# Altium schematic symbol library Schlib.SchLib: 629 symbols (part 2 of 21)
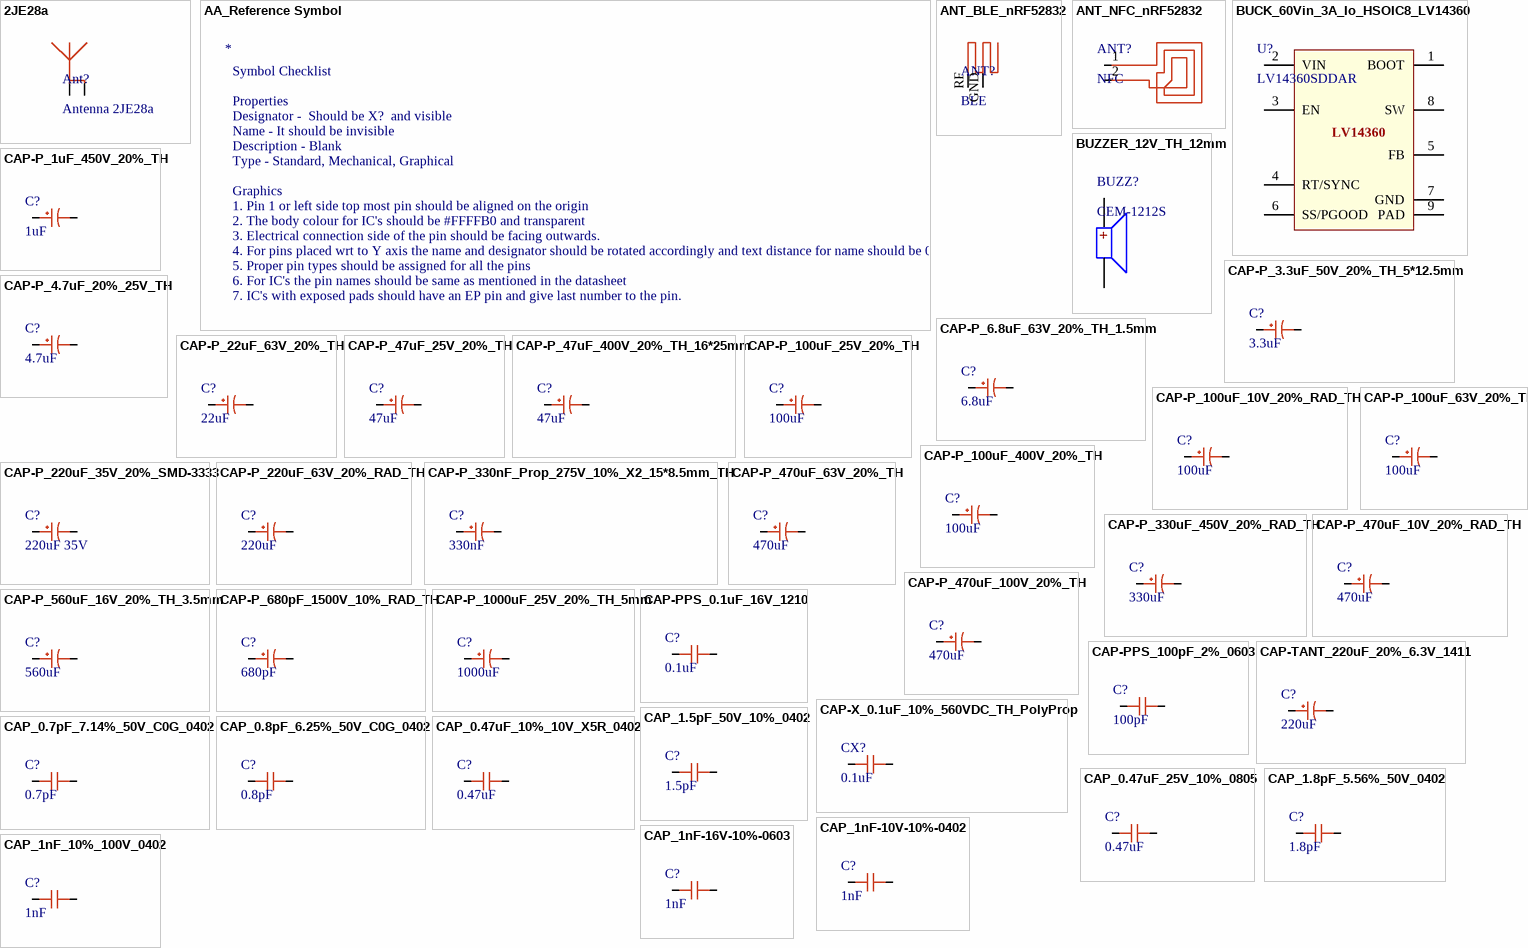
[diagram p19: symbols 2JE28a to CAP_1nF_10%_100V_0402]

## CAP_0.47uF_10%_10V_X5R_0402
designator C?, comment 0.47uF
Ceramic Capacitor, Multilayer, Ceramic, 10V, 10% +Tol, 10% -Tol, X5R, 15% TC, 0.47uF, Surface Mount, 0402; Manufacturer: Murata; Manufacturer Part Number: GRM155R61A474KE15D; Value: 470nF; Multilayer: Yes; Supplier: Digikey; Supplier Part Number: 490-3264-1-ND; RoHS: Yes; Category: Ceramic Capacitors; Stock: 2924505; Pricing: 1=0.1, 10=0.061, 50=0.0362, 100=0.0284, 500=0.021, 1000=0.01739, 2500=0.01618, 5000=0.01481 (USD); Mounting Technology: Surface Mount; Pins: 2; Dielectric Material: Ceramic; Package Shape: Rectangular; Case/Package: 0402; Terminal Finish: Nickel; Min Operating Temperature: -55°C; Max Operating Temperature: 85°C; JESD-609 Code: e3; Capacitor Type: Ceramic; Tolerance  (fill in as +-): 10%; Package Style: SMTMeter; Packaging: Tape and Reel; Tolerance (fill in as +-): 10%; Rated DC Voltage (URdc): 10V; Temperature Characteristics Code: X5R; Termination: Wraparound; Length: 1mm; Width: 0.5mm; Height: 0.5mm; Reach SVHC Compliant: Yes; RoHS Compliant: Yes; ComponentLink1URL: https://datasheet.ciiva.com:443/pdfs/VipMasterIC/IC/MURE/MURE-S-A0008911154/MURE-S-A0008911155-1.pdf?src-supplier=IHS+Markit; ComponentLink1Description: https://datasheet.ciiva.com:443/pdfs/VipMasterIC/IC/MURE/MURE-S-A0008911154/MURE-S-A0008911155-1.pdf?src-supplier=IHS+Markit; ComponentLink2URL: https://datasheet.ciiva.com/6068/1747445-6068308.pdf?src-supplier=Farnell; ComponentLink2Description: https://datasheet.ciiva.com/6068/1747445-6068308.pdf?src-supplier=Farnell; ComponentLink3URL: https://datasheet.ciiva.com/164/product-164992.pdf?src-supplier=Digikey; ComponentLink3Description: https://datasheet.ciiva.com/164/product-164992.pdf?src-supplier=Digikey; ComponentLink4URL: https://datasheet.ciiva.com/11786/0900766b80ef921d-11786226.pdf?src-supplier=Rs; ComponentLink4Description: https://datasheet.ciiva.com/11786/0900766b80ef921d-11786226.pdf?src-supplier=Rs; ComponentLink5URL: https://datasheet.ciiva.com/18184/getdatasheetpartid-137366-18184609.pdf?src-supplier=Verical; ComponentLink5Description: https://datasheet.ciiva.com/18184/getdatasheetpartid-137366-18184609.pdf?src-supplier=Verical; ComponentLink6URL: https://datasheet.ciiva.com/29200/453533-da-01-en-vs-kondensator-0402-29200100.pdf?src-supplier=Conrad; ComponentLink6Description: https://datasheet.ciiva.com/29200/453533-da-01-en-vs-kondensator-0402-29200100.pdf?src-supplier=Conrad; ComponentLink7URL: https://datasheet.ciiva.com/14116/grmseries-highdielectrictype-eng-14116874.pdf?src-supplier=Distrelec; ComponentLink7Description: https://datasheet.ciiva.com/14116/grmseries-highdielectrictype-eng-14116874.pdf?src-supplier=Distrelec; ComponentLink8URL: https://datasheet.ciiva.com/7719/1747445-7719005.pdf?src-supplier=Element14; ComponentLink8Description: https://datasheet.ciiva.com/7719/1747445-7719005.pdf?src-supplier=Element14; ComponentLink9URL: https://datasheet.ciiva.com/164/grm155r61a474ke15-01-164994.pdf?src-supplier=Digikey; ComponentLink9Description: https://datasheet.ciiva.com/164/grm155r61a474ke15-01-164994.pdf?src-supplier=Digikey; ComponentLink10URL: https://datasheet.ciiva.com/2989/product-2989371.pdf?src-supplier=Avnet; ComponentLink10Description: https://datasheet.ciiva.com/2989/product-2989371.pdf?src-supplier=Avnet; ComponentLink11URL: https://datasheet.ciiva.com/164/grm155r61a474ke15-01-164993.pdf?src-supplier=Digikey; ComponentLink11Description: https://datasheet.ciiva.com/164/grm155r61a474ke15-01-164993.pdf?src-supplier=Digikey; ComponentLink12URL: https://datasheet.ciiva.com/22698/1747445-22698412.pdf?src-supplier=Element14; ComponentLink12Description: https://datasheet.ciiva.com/22698/1747445-22698412.pdf?src-supplier=Element14; ComponentLink13URL: https://datasheet.ciiva.com/16199/product-16199863.pdf?src-supplier=Future+Electronics; ComponentLink13Description: https://datasheet.ciiva.com/16199/product-16199863.pdf?src-supplier=Future+Electronics
footprint CAP_0402
pins: 1, 2

## CAP_0.47uF_25V_10%_0805
designator C?, comment 0.47uF
Ceramic Capacitor, Multilayer, Ceramic, 25V, 10% +Tol, 10% -Tol, X7R, 15% TC, 0.47uF, Surface Mount, 0805; Manufacturer: Samsung; Manufacturer Part Number: CL21B474KAFNNNG; Value: 470nF; Multilayer: Yes; Supplier: Digikey; Supplier Part Number: 1276-6480-1-ND; RoHS: Yes; Category: Ceramic Capacitors; Stock: 655964; Pricing: 1=0.1, 10=0.037, 50=0.025, 100=0.0213, 500=0.01524, 1000=0.01334 (USD); Mounting Technology: Surface Mount; Pins: 2; Dielectric Material: Ceramic; Package Shape: Rectangular; Case/Package: 0805; Terminal Finish: Nickel; Min Operating Temperature: -55°C; Max Operating Temperature: 125°C; JESD-609 Code: e3; Capacitor Type: Ceramic; Tolerance  (fill in as +-): 10%; Package Style: SMTMeter; Packaging: Tape and Reel; Tolerance (fill in as +-): 10%; Rated DC Voltage (URdc): 25V; Temperature Characteristics Code: X7R; Termination: Wraparound; Length: 2mm; Width: 1.25mm; Height: 1.35mm; Reach SVHC Compliant: Yes; RoHS Compliant: Yes; ComponentLink1URL: https://datasheet.ciiva.com:443/pdfs/VipMasterIC/IC/SEMS/SEMS-S-A0008524728/SEMS-S-A0008522983-1.pdf?src-supplier=IHS+Markit; ComponentLink1Description: https://datasheet.ciiva.com:443/pdfs/VipMasterIC/IC/SEMS/SEMS-S-A0008524728/SEMS-S-A0008522983-1.pdf?src-supplier=IHS+Markit; ComponentLink2URL: https://datasheet.ciiva.com/25733/cl21b474kafnnng-25733031.pdf?src-supplier=Digikey; ComponentLink2Description: https://datasheet.ciiva.com/25733/cl21b474kafnnng-25733031.pdf?src-supplier=Digikey; ComponentLink3URL: https://datasheet.ciiva.com/29200/453672-da-01-en-vs-kondensator-0805-29200028.pdf?src-supplier=Conrad; ComponentLink3Description: https://datasheet.ciiva.com/29200/453672-da-01-en-vs-kondensator-0805-29200028.pdf?src-supplier=Conrad; ComponentLink4URL: https://datasheet.ciiva.com/29200/453685-da-01-en-vs-kondensator-0805-29200035.pdf?src-supplier=Conrad; ComponentLink4Description: https://datasheet.ciiva.com/29200/453685-da-01-en-vs-kondensator-0805-29200035.pdf?src-supplier=Conrad
footprint CAP_0805
pins: 1, 2

## CAP_1.5pF_50V_10%_0402
designator C?, comment 1.5pF
Cap Cer 1.5PF 50V C0G/NP0 0402; Manufacturer: Johanson; Manufacturer Part Number: QSCF500Q1R5B1GV001T; Supplier: Digikey; Supplier Part Number: 712-QSCF500Q1R5B1GV001TCT-ND; RoHS: Yes; Category: Ceramic Capacitors; Stock: 81872; Pricing: 1=0.16, 10=0.093, 100=0.057, 1000=0.03875, 2500=0.03422, 5000=0.03149 (USD); Reach SVHC Compliant: No; RoHS Compliant: Yes
footprint CAP_0402
pins: 1, 2

## CAP_1.8pF_5.56%_50V_0402
designator C?, comment 1.8pF
Ceramic Capacitor, Multilayer, Ceramic, 50V, 5.56% +Tol, 5.56% -Tol, C0G, 30ppm/Cel TC, 0.0000018uF, Surface Mount, 0402; Manufacturer: Murata; Manufacturer Part Number: GJM1555C1H1R8BB01D; Multilayer: Yes; Supplier: Mouser; Supplier Part Number: 81-GJM1555C1H1R8BB01; RoHS: Yes; Category: Ceramic Capacitors; Stock: 161976; Pricing: 1=0.1, 10=0.039, 50=0.039, 100=0.025, 1000=0.022, 10000=0.013 (USD); Mounting Technology: Surface Mount; Pins: 2; Dielectric Material: Ceramic; Package Shape: Rectangular; Case/Package: 0402; Terminal Finish: Nickel; Min Operating Temperature: -55°C; Max Operating Temperature: 125°C; JESD-609 Code: e3; Value: 1.8pF; Capacitor Type: Ceramic; Tolerance  (fill in as +-): 5.56%; Package Style: SMTMeter; Packaging: Tape and Reel; Tolerance (fill in as +-): 5.56%; Rated DC Voltage (URdc): 50V; Temperature Characteristics Code: C0G; Termination: Wraparound; Length: 1mm; Width: 0.5mm; Height: 0.5mm; Reach SVHC Compliant: Yes; RoHS Compliant: Yes; ComponentLink1URL: https://datasheet.ciiva.com:443/pdfs/VipMasterIC/IC/MURE/MURE-S-A0008911298/MURE-S-A0008911267-1.pdf?src-supplier=IHS+Markit; ComponentLink1Description: https://datasheet.ciiva.com:443/pdfs/VipMasterIC/IC/MURE/MURE-S-A0008911298/MURE-S-A0008911267-1.pdf?src-supplier=IHS+Markit; ComponentLink2URL: https://datasheet.ciiva.com/5694/1700192-5694976.pdf?src-supplier=Farnell; ComponentLink2Description: https://datasheet.ciiva.com/5694/1700192-5694976.pdf?src-supplier=Farnell; ComponentLink3URL: https://datasheet.ciiva.com/11615/product-11615590.pdf?src-supplier=Avnet; ComponentLink3Description: https://datasheet.ciiva.com/11615/product-11615590.pdf?src-supplier=Avnet; ComponentLink4URL: https://datasheet.ciiva.com/8030/1303334-8030110.pdf?src-supplier=Element14; ComponentLink4Description: https://datasheet.ciiva.com/8030/1303334-8030110.pdf?src-supplier=Element14; ComponentLink5URL: https://datasheet.ciiva.com/22732/1303334-22732102.pdf?src-supplier=Element14; ComponentLink5Description: https://datasheet.ciiva.com/22732/1303334-22732102.pdf?src-supplier=Element14; ComponentLink6URL: https://datasheet.ciiva.com/29542/partnumbering-e-01-29542602.pdf?src-supplier=Digikey; ComponentLink6Description: https://datasheet.ciiva.com/29542/partnumbering-e-01-29542602.pdf?src-supplier=Digikey; ComponentLink7URL: https://datasheet.ciiva.com/29542/partnumbering-e-01-29542601.pdf?src-supplier=Digikey; ComponentLink7Description: https://datasheet.ciiva.com/29542/partnumbering-e-01-29542601.pdf?src-supplier=Digikey; ComponentLink8URL: https://datasheet.ciiva.com/29542/partnumbering-e-01-29542603.pdf?src-supplier=Digikey; ComponentLink8Description: https://datasheet.ciiva.com/29542/partnumbering-e-01-29542603.pdf?src-supplier=Digikey; ComponentLink9URL: https://datasheet.ciiva.com/16440/l0005e-16440475.pdf?src-supplier=Future+Electronics; ComponentLink9Description: https://datasheet.ciiva.com/16440/l0005e-16440475.pdf?src-supplier=Future+Electronics
footprint CAP_0402
pins: 1, 2

## CAP_1nF-10V-10%-0402
designator C?, comment 1nF
Multilayer Ceramic Capacitor, 1000 pF, 10 V, ± 10%, X7R, 0402 [1005 Metric]; Manufacturer: KEMET; Manufacturer Part Number: C0402C102K8RACTU; Voltage Rating: 10V; Dissipation Factor: 5%; Case/Package: 0402; Supplier-1: Digikey; Supplier 1: Digi-Key; Manufacturer 1: KEMET; Manufacturer Part Number 1: C0402C102K8RACTU; RoHS: Yes; Category: Ceramic Capacitors; Stock 1: 209937; Pricing 1: 1=0.1, 10=0.019, 50=0.0104, 100=0.0085, 500=0.00604, 1000=0.00475, 2500=0.00432, 5000=0.00397 (USD); Mount: Surface Mount; Case Code (Imperial): 0402; Case Code (Metric): 1005; Dielectric Material: Ceramic; Min Operating Temperature: -55°C; Max Operating Temperature: 125°C; Capacitance: 1nF; Tolerance: 10%; Packaging: Tape and Reel; Package Quantity: 1; Voltage Rating (DC): 10V; Dielectric: X7R; Termination: SMD/SMT; Series: C; Construction: Flat; Length: 1mm; Width: 0.02inch; Height: 0.5mm; Lead Pitch: 0.3mm; Thickness: 0.022inch; Depth: 0.5mm; Reach SVHC Compliant: No; RoHS Compliant: Yes; ComponentLink1URL: http://www.farnell.com/datasheets/2746032.pdf?src-supplier=Farnell; ComponentLink1Description: http://www.farnell.com/datasheets/2746032.pdf?src-supplier=Farnell; ComponentLink2URL: http://components.arrow.com/part/dataview/2084806S6036613N7429?src-supplier=Arrow+Electronics; ComponentLink2Description: http://components.arrow.com/part/dataview/2084806S6036613N7429?src-supplier=Arrow+Electronics; ComponentLink3URL: http://www.mouser.com/ds/2/212/KEM_C1002_X7R_SMD-1102033.pdf?src-supplier=Mouser; ComponentLink3Description: http://www.mouser.com/ds/2/212/KEM_C1002_X7R_SMD-1102033.pdf?src-supplier=Mouser; ComponentLink4URL: http://capacitoredge.kemet.com/capedge2/DataSheet?pn=C0402C102K8RAC7867&src-supplier=Avnet; ComponentLink4Description: http://capacitoredge.kemet.com/capedge2/DataSheet?pn=C0402C102K8RAC7867&src-supplier=Avnet; ComponentLink5URL: http://www.farnell.com/datasheets/2314914.pdf?src-supplier=Newark; ComponentLink5Description: http://www.farnell.com/datasheets/2314914.pdf?src-supplier=Newark; ComponentLink6URL: https://datasheet.octopart.com/C0402C102K8RACTU-KEMET-datasheet-74831184.pdf?src-supplier=Newark; ComponentLink6Description: https://datasheet.octopart.com/C0402C102K8RACTU-KEMET-datasheet-74831184.pdf?src-supplier=Newark; ComponentLink7URL: https://api.kemet.com/component-edge/download/datasheet/C0402C102K8RACTU.pdf?src-supplier=Digi-Key; ComponentLink7Description: https://api.kemet.com/component-edge/download/datasheet/C0402C102K8RACTU.pdf?src-supplier=Digi-Key; ComponentLink8URL: https://datasheet.octopart.com/C0402C102K8RACTU-Kemet-datasheet-65850000.pdf?src-supplier=Element14; ComponentLink8Description: https://datasheet.octopart.com/C0402C102K8RACTU-Kemet-datasheet-65850000.pdf?src-supplier=Element14; ComponentLink9URL: https://datasheet.octopart.com/C0402C102K8RACTU-KEMET-datasheet-149521594.pdf?src-supplier=Farnell; ComponentLink9Description: https://datasheet.octopart.com/C0402C102K8RACTU-KEMET-datasheet-149521594.pdf?src-supplier=Farnell; ComponentLink10URL: http://www.farnell.com/datasheets/2746032.pdf?src-supplier=Element14; ComponentLink10Description: http://www.farnell.com/datasheets/2746032.pdf?src-supplier=Element14; ComponentLink11URL: http://www.farnell.com/datasheets/2746032.pdf?src-supplier=Newark; ComponentLink11Description: http://www.farnell.com/datasheets/2746032.pdf?src-supplier=Newark; ComponentLink12URL: https://datasheet.octopart.com/C0402C102K8RACTU-KEMET-datasheet-138697071.pdf?src-supplier=TME; ComponentLink12Description: https://datasheet.octopart.com/C0402C102K8RACTU-KEMET-datasheet-138697071.pdf?src-supplier=TME; ComponentLink13URL: https://datasheet.octopart.com/C0402C102K8RACTU-KEMET-datasheet-157246124.pdf?src-supplier=Electro+Sonic; ComponentLink13Description: https://datasheet.octopart.com/C0402C102K8RACTU-KEMET-datasheet-157246124.pdf?src-supplier=Electro+Sonic
footprint CAP_0402 (Capacitor)
pins: 1, 2

## CAP_1nF-16V-10%-0603
designator C?, comment 1nF
1000pF ±10% 16V Ceramic Capacitor X7R 0603 (1608 Metric); Manufacturer: KEMET; Manufacturer Part Number: C0603C102K4RECAUTO; Case/Package: 0603; Supplier-1: Digikey
footprint CAP_0603 (Capacitor)
pins: 1, 2

## CAP_1nF_10%_100V_0402
designator C?, comment 1nF
Ceramic Capacitor, Multilayer, Ceramic, 100V, 10% +Tol, 10% -Tol, X7R, 15% TC, 0.001uF, Surface Mount, 0402; Manufacturer: Murata; Manufacturer Part Number: GRM155R72A102KA01D; Multilayer: Yes; Supplier: Mouser; Supplier Part Number: 81-GRM155R72A102KA1D; RoHS: Yes; Category: Ceramic Capacitors; Stock: 90228; Pricing: 1=0.1, 10=0.018, 50=0.018, 100=0.011, 1000=0.007, 10000=0.004 (USD); Mounting Technology: Surface Mount; Pins: 2; Dielectric Material: Ceramic; Package Shape: Rectangular; Case/Package: 0402; Terminal Finish: Nickel; Min Operating Temperature: -55°C; Max Operating Temperature: 125°C; JESD-609 Code: e3; Value: 1nF; Capacitor Type: Ceramic; Tolerance  (fill in as +-): 10%; Package Style: SMTMeter; Packaging: Tape and Reel; Tolerance (fill in as +-): 10%; Rated DC Voltage (URdc): 100V; Temperature Characteristics Code: X7R; Termination: Wraparound; Length: 1mm; Width: 0.5mm; Height: 0.5mm; Reach SVHC Compliant: Yes; RoHS Compliant: Yes; ComponentLink1URL: https://datasheet.ciiva.com:443/pdfs/VipMasterIC/IC/MURE/MURE-S-A0004362469/MURE-S-A0004364740-1.pdf?src-supplier=IHS+Markit; ComponentLink1Description: https://datasheet.ciiva.com:443/pdfs/VipMasterIC/IC/MURE/MURE-S-A0004362469/MURE-S-A0004364740-1.pdf?src-supplier=IHS+Markit; ComponentLink2URL: https://datasheet.ciiva.com/18184/getdatasheetpartid-223878-18184773.pdf?src-supplier=Verical; ComponentLink2Description: https://datasheet.ciiva.com/18184/getdatasheetpartid-223878-18184773.pdf?src-supplier=Verical; ComponentLink3URL: https://datasheet.ciiva.com/6270/partnumbering-e-01-6270796.pdf?src-supplier=Digikey; ComponentLink3Description: https://datasheet.ciiva.com/6270/partnumbering-e-01-6270796.pdf?src-supplier=Digikey; ComponentLink4URL: https://datasheet.ciiva.com/6270/partnumbering-e-01-6270792.pdf?src-supplier=Digikey; ComponentLink4Description: https://datasheet.ciiva.com/6270/partnumbering-e-01-6270792.pdf?src-supplier=Digikey; ComponentLink5URL: https://datasheet.ciiva.com/6270/partnumbering-e-01-6270798.pdf?src-supplier=Digikey; ComponentLink5Description: https://datasheet.ciiva.com/6270/partnumbering-e-01-6270798.pdf?src-supplier=Digikey; ComponentLink6URL: https://datasheet.ciiva.com/11621/product-11621687.pdf?src-supplier=Avnet; ComponentLink6Description: https://datasheet.ciiva.com/11621/product-11621687.pdf?src-supplier=Avnet
footprint CAP_0402
pins: 1, 2

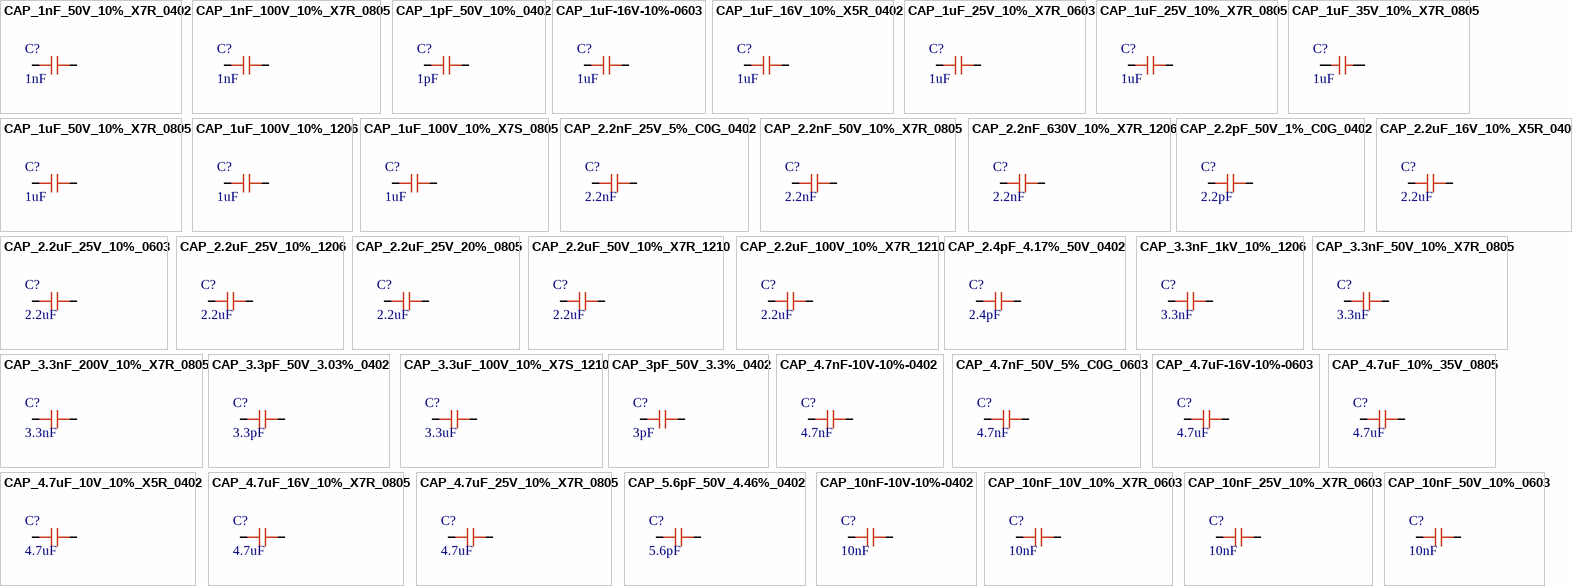
[diagram p1: symbols CAP_1nF_50V_10%_X7R_0402 to CAP_10nF_50V_10%_0603]

## CAP_1nF_50V_10%_X7R_0402
designator C?, comment 1nF
Ceramic Capacitor, Multilayer, Ceramic, 50V, 10% +Tol, 10% -Tol, X7R, 15% TC, 0.001uF, Surface Mount, 0402; Manufacturer: KEMET; Manufacturer Part Number: C0402C102K5RACTU; Multilayer: Yes; Supplier: Farnell; Supplier Part Number: 1414573; RoHS: Yes; Category: Ceramic Capacitors; Stock: 59491; Pricing: 10=0.008, 100=0.0057, 500=0.0051, 1000=0.0045, 2000=0.0033 (EUR); Mounting Technology: Surface Mount; Pins: 2; Dielectric Material: Ceramic; Package Shape: Rectangular; Case/Package: 0402; Terminal Finish: Nickel; Min Operating Temperature: -55°C; Max Operating Temperature: 125°C; JESD-609 Code: e3; Value: 1nF; Capacitor Type: Ceramic; Tolerance  (fill in as +-): 10%; Package Style: SMTMeter; Packaging: Tape and Reel; Tolerance (fill in as +-): 10%; Rated DC Voltage (URdc): 50V; Temperature Characteristics Code: X7R; Termination: Wraparound; Length: 1mm; Width: 0.5mm; Height: 0.5mm; Reach SVHC Compliant: Yes; RoHS Compliant: Yes; ComponentLink1URL: https://datasheet.ciiva.com:443/pdfs/VipMasterIC/IC/KEME/KEME-S-A0008991654/KEME-S-A0008991654-1.pdf?src-supplier=IHS+Markit; ComponentLink1Description: https://datasheet.ciiva.com:443/pdfs/VipMasterIC/IC/KEME/KEME-S-A0008991654/KEME-S-A0008991654-1.pdf?src-supplier=IHS+Markit; ComponentLink2URL: https://datasheet.ciiva.com/7747/1725415-7747432.pdf?src-supplier=Element14; ComponentLink2Description: https://datasheet.ciiva.com/7747/1725415-7747432.pdf?src-supplier=Element14; ComponentLink3URL: https://datasheet.ciiva.com/5904/kem-c1002-x7r-smd-5904601.pdf?src-supplier=Farnell; ComponentLink3Description: https://datasheet.ciiva.com/5904/kem-c1002-x7r-smd-5904601.pdf?src-supplier=Farnell; ComponentLink4URL: https://datasheet.ciiva.com/28645/1851736-28645368.pdf?src-supplier=Element14; ComponentLink4Description: https://datasheet.ciiva.com/28645/1851736-28645368.pdf?src-supplier=Element14; ComponentLink5URL: https://datasheet.ciiva.com/14589/70095383-14589561.pdf?src-supplier=Allied+Electronics; ComponentLink5Description: https://datasheet.ciiva.com/14589/70095383-14589561.pdf?src-supplier=Allied+Electronics; ComponentLink6URL: https://datasheet.ciiva.com/14588/70095383-14588870.pdf?src-supplier=Allied+Electronics; ComponentLink6Description: https://datasheet.ciiva.com/14588/70095383-14588870.pdf?src-supplier=Allied+Electronics; ComponentLink7URL: https://datasheet.ciiva.com/7747/1918693-7747609.pdf?src-supplier=Element14; ComponentLink7Description: https://datasheet.ciiva.com/7747/1918693-7747609.pdf?src-supplier=Element14; ComponentLink8URL: https://datasheet.ciiva.com/5417/kem-c1002-x7r-smd-5417983.pdf?src-supplier=Mouser; ComponentLink8Description: https://datasheet.ciiva.com/5417/kem-c1002-x7r-smd-5417983.pdf?src-supplier=Mouser
footprint CAP_0402
pins: 1, 2

## CAP_1nF_100V_10%_X7R_0805
designator C?, comment 1nF
Ceramic Capacitor, Multilayer, Ceramic, 100V, 10% +Tol, 10% -Tol, X7R, 15% TC, 0.001uF, Surface Mount, 0805; Manufacturer: Samsung; Manufacturer Part Number: CL21B102KCANNNC; Multilayer: Yes; Supplier: Arrow Electronics; Supplier Part Number: CL21B102KCANNNC; RoHS: Yes; Category: Ceramic Capacitors; Stock: 3500000; Pricing: 16000=0.0057, 28000=0.0049, 100000=0.0046, 200000=0.0039 (USD); Mounting Technology: Surface Mount; Pins: 2; Dielectric Material: Ceramic; Package Shape: Rectangular; Case/Package: 0805; Terminal Finish: Nickel; Min Operating Temperature: -55°C; Max Operating Temperature: 125°C; JESD-609 Code: e3; Value: 1nF; Capacitor Type: Ceramic; Tolerance  (fill in as +-): 10%; Package Style: SMTMeter; Packaging: Tape and Reel; Tolerance (fill in as +-): 10%; Rated DC Voltage (URdc): 100V; Temperature Characteristics Code: X7R; Termination: Wraparound; Length: 2mm; Width: 1.25mm; Height: 0.65mm; Reach SVHC Compliant: Yes; RoHS Compliant: Yes; ComponentLink1URL: https://datasheet.ciiva.com:443/pdfs/VipMasterIC/IC/SEMS/SEMS-S-A0008523115/SEMS-S-A0008523345-1.pdf?src-supplier=IHS+Markit; ComponentLink1Description: https://datasheet.ciiva.com:443/pdfs/VipMasterIC/IC/SEMS/SEMS-S-A0008523115/SEMS-S-A0008523345-1.pdf?src-supplier=IHS+Markit; ComponentLink2URL: https://datasheet.ciiva.com/26878/getdatasheetpartid-643098-26878049.pdf?src-supplier=Verical; ComponentLink2Description: https://datasheet.ciiva.com/26878/getdatasheetpartid-643098-26878049.pdf?src-supplier=Verical; ComponentLink3URL: https://datasheet.ciiva.com/29199/456063-da-01-en-vs-kondensator-0805-29199067.pdf?src-supplier=Conrad; ComponentLink3Description: https://datasheet.ciiva.com/29199/456063-da-01-en-vs-kondensator-0805-29199067.pdf?src-supplier=Conrad; ComponentLink4URL: https://datasheet.ciiva.com/26310/mlcc-catalogdownload2013-eng-26310183.pdf?src-supplier=Distrelec; ComponentLink4Description: https://datasheet.ciiva.com/26310/mlcc-catalogdownload2013-eng-26310183.pdf?src-supplier=Distrelec
footprint CAP_0805
pins: 1, 2

## CAP_1pF_50V_10%_0402
designator C?, comment 1pF
Cap Cer 1PF 50V C0G/NP0 0402; Manufacturer: Johanson; Manufacturer Part Number: QSCF500Q1R0B1GV001T; Supplier: Farnell; Supplier Part Number: 4388592; RoHS: Yes; Category: Ceramic Capacitors; Stock: 9860; Pricing: 10=0.0616, 100=0.0384, 500=0.0324, 2500=0.0293, 5000=0.0273, 10000=0.0252 (EUR); Reach SVHC Compliant: No; RoHS Compliant: Yes
footprint CAP_0402
pins: 1, 2

## CAP_1uF-16V-10%-0603
designator C?, comment 1uF
Multilayer Ceramic Capacitor, 1 uF, 16 V, ± 10%, X7R, 0603 [1608 Metric]; Manufacturer: Yageo; Manufacturer Part Number: CC0603KRX7R7BB105; Voltage Rating: 16V; Dissipation Factor: 5%; Case/Package: 0603; Supplier-1: Digikey; Supplier 1: Digi-Key; Manufacturer 1: Yageo; Manufacturer Part Number 1: CC0603KRX7R7BB105; RoHS: Yes; Category: Ceramic Capacitors; Stock 1: 9958482; Pricing 1: 1=0.14, 10=0.098, 50=0.0556, 100=0.0461, 500=0.03234, 1000=0.02678 (USD); Mount: Surface Mount; Number of Pins: 2; Case Code (Metric): 1608; Case Code (Imperial): 0603; Min Operating Temperature: -55°C; Max Operating Temperature: 125°C; Capacitance: 1uF; Tolerance: 10%; Dielectric: X7R; Package Quantity: 1; Packaging: Tape and Reel; Voltage Rating (DC): 16V; Termination: SMD/SMT; Voltage: 16V; Series: CC; Construction: Flat; Length: 1.6mm; Width: 0.031inch; Height: 0.8mm; Thickness: 0.035inch; Depth: 0.8mm; Radiation Hardening: No; Lead Free: Lead Free; Halogen Free: Halogen Free; RoHS Compliant: Yes; Reach SVHC Compliant: Unknown; ComponentLink1URL: https://datasheet.ciiva.com/8033/1734573-8033801.pdf?src-supplier=Element14; ComponentLink1Description: https://datasheet.ciiva.com/8033/1734573-8033801.pdf?src-supplier=Element14; ComponentLink2URL: https://datasheet.ciiva.com/8033/1734573-8033800.pdf?src-supplier=Element14; ComponentLink2Description: https://datasheet.ciiva.com/8033/1734573-8033800.pdf?src-supplier=Element14; ComponentLink3URL: https://datasheet.ciiva.com/7978/1489800-7978143.pdf?src-supplier=Element14; ComponentLink3Description: https://datasheet.ciiva.com/7978/1489800-7978143.pdf?src-supplier=Element14; ComponentLink4URL: https://datasheet.ciiva.com/28450/1489800-28450557.pdf?src-supplier=Element14; ComponentLink4Description: https://datasheet.ciiva.com/28450/1489800-28450557.pdf?src-supplier=Element14; ComponentLink5URL: https://datasheet.ciiva.com/176/mlccorderingcode-176789.pdf?src-supplier=Digi-Key; ComponentLink5Description: https://datasheet.ciiva.com/176/mlccorderingcode-176789.pdf?src-supplier=Digi-Key; ComponentLink6URL: https://datasheet.ciiva.com/176/mlccorderingcode-176788.pdf?src-supplier=Digi-Key; ComponentLink6Description: https://datasheet.ciiva.com/176/mlccorderingcode-176788.pdf?src-supplier=Digi-Key; ComponentLink7URL: https://datasheet.ciiva.com/176/mlccorderingcode-176790.pdf?src-supplier=Digi-Key; ComponentLink7Description: https://datasheet.ciiva.com/176/mlccorderingcode-176790.pdf?src-supplier=Digi-Key; ComponentLink8URL: https://datasheet.ciiva.com/5425/upy-gphc-x7r-6-3v-to-50v-8-12304-5425495.pdf?src-supplier=Mouser; ComponentLink8Description: https://datasheet.ciiva.com/5425/upy-gphc-x7r-6-3v-to-50v-8-12304-5425495.pdf?src-supplier=Mouser
footprint CAP_0603 (Capacitor)
pins: 1, 2

## CAP_1uF_16V_10%_X5R_0402
designator C?, comment 1uF
Ceramic Capacitor, Multilayer, Ceramic, 16V, 10% +Tol, 10% -Tol, X5R, 15% TC, 1uF, Surface Mount, 0402; Manufacturer: Yageo; Manufacturer Part Number: CC0402KRX5R7BB105; Multilayer: Yes; Supplier: Future Electronics; Supplier Part Number: 7066535; RoHS: Yes; Category: Ceramic Capacitors; Stock: 730000; Pricing: 10000=0.0305, 20000=0.0297, 30000=0.0293, 40000=0.029, 50000=0.0281 (USD); Mounting Technology: Surface Mount; Pins: 2; Dielectric Material: Ceramic; Package Shape: Rectangular; Case/Package: 0402; Terminal Finish: Nickel; Min Operating Temperature: -55°C; Max Operating Temperature: 85°C; JESD-609 Code: e3; Value: 1uF; Capacitor Type: Ceramic; Tolerance  (fill in as +-): 10%; Package Style: SMTMeter; Packaging: Tape and Reel; Tolerance (fill in as +-): 10%; Rated DC Voltage (URdc): 16V; Temperature Characteristics Code: X5R; Termination: Wraparound; Length: 1mm; Width: 0.5mm; Height: 0.5mm; Reach SVHC Compliant: Yes; RoHS Compliant: Yes; ComponentLink1URL: https://datasheet.ciiva.com:443/pdfs/VipMasterIC/IC/YAGO/YAGO-S-A0006851646/YAGO-S-A0006851646-1.pdf?src-supplier=IHS+Markit; ComponentLink1Description: https://datasheet.ciiva.com:443/pdfs/VipMasterIC/IC/YAGO/YAGO-S-A0006851646/YAGO-S-A0006851646-1.pdf?src-supplier=IHS+Markit; ComponentLink2URL: http://www.mouser.com/ds/2/447/UPY-GPHC_X5R_4V-to-50V_25-1131599.pdf?src-supplier=Mouser; ComponentLink2Description: http://www.mouser.com/ds/2/447/UPY-GPHC_X5R_4V-to-50V_25-1131599.pdf?src-supplier=Mouser; ComponentLink3URL: http://www.yageo.com/documents/recent/UPY-GPHC_X5R_4V-to-50V_25.pdf?src-supplier=Digikey; ComponentLink3Description: http://www.yageo.com/documents/recent/UPY-GPHC_X5R_4V-to-50V_25.pdf?src-supplier=Digikey; ComponentLink4URL: https://datasheet.octopart.com/CC0402KRX5R7BB105-Yageo-datasheet-140260304.pdf?src-supplier=Newark; ComponentLink4Description: https://datasheet.octopart.com/CC0402KRX5R7BB105-Yageo-datasheet-140260304.pdf?src-supplier=Newark; ComponentLink5URL: https://datasheet.octopart.com/CC0402KRX5R7BB105-Yageo-datasheet-137875056.pdf?src-supplier=Future+Electronics; ComponentLink5Description: https://datasheet.octopart.com/CC0402KRX5R7BB105-Yageo-datasheet-137875056.pdf?src-supplier=Future+Electronics
footprint CAP_0402
pins: 1, 2

## CAP_1uF_25V_10%_X7R_0603
designator C?, comment 1uF
Multilayer Ceramic Capacitor, 1 uF, 25 V, ± 10%, X7R, 0603 [1608 Metric]; Manufacturer: KEMET; Manufacturer Part Number: C0603C105K3RACTU; Material: 4241ConductorMaterial; Voltage Rating: 25V; Dissipation Factor: 5%; Supplier 1: Digi-Key; RoHS: Yes; Category: Ceramic Capacitors; Stock 1: 315348; Pricing 1: 1=0.25, 10=0.175, 50=0.1164, 100=0.0989, 500=0.06982, 1000=0.06108 (USD); Mount: Surface Mount; Case/Package: 0603; Case Code (Metric): 1608; Case Code (Imperial): 0603; Dielectric Material: Ceramic; Min Operating Temperature: -55°C; Max Operating Temperature: 125°C; Capacitance: 1uF; Tolerance: 10%; Packaging: Tape and Reel; Package Quantity: 4000; Voltage Rating (DC): 25V; Dielectric: X7R; Termination: SMD/SMT; Voltage: 25V; Series: SMD Comm X7R; Construction: Flat; Length: 1.6mm; Width: 0.8mm; Height: 0.8mm; Depth: 0.8mm; Reach SVHC Compliant: No; RoHS Compliant: Yes; ComponentLink1URL: http://www.farnell.com/datasheets/2740425.pdf?src-supplier=Farnell; ComponentLink1Description: http://www.farnell.com/datasheets/2740425.pdf?src-supplier=Farnell; ComponentLink2URL: http://www.farnell.com/datasheets/2740425.pdf?src-supplier=Newark; ComponentLink2Description: http://www.farnell.com/datasheets/2740425.pdf?src-supplier=Newark; ComponentLink3URL: http://www.farnell.com/datasheets/2740425.pdf?src-supplier=Element14; ComponentLink3Description: http://www.farnell.com/datasheets/2740425.pdf?src-supplier=Element14; ComponentLink4URL: https://api.kemet.com/component-edge/download/datasheet/C0603C105K3RACTU.pdf?src-supplier=Digi-Key; ComponentLink4Description: https://api.kemet.com/component-edge/download/datasheet/C0603C105K3RACTU.pdf?src-supplier=Digi-Key; ComponentLink5URL: http://www.kemet.com/Lists/ProductCatalog/Attachments/53/KEM_C1002_X7R_SMD.pdf?src-supplier=Avnet; ComponentLink5Description: http://www.kemet.com/Lists/ProductCatalog/Attachments/53/KEM_C1002_X7R_SMD.pdf?src-supplier=Avnet; ComponentLink6URL: https://datasheet.octopart.com/C0603C105K3RACTU-KEMET-datasheet-157246124.pdf?src-supplier=Electro+Sonic; ComponentLink6Description: https://datasheet.octopart.com/C0603C105K3RACTU-KEMET-datasheet-157246124.pdf?src-supplier=Electro+Sonic; Supplier Part Number 1: 399-C0603C105K3RAC7867CT-ND
footprint CAP_0603 (Chip Capacitor 0603, 2-Leads, Body 1.68x0.88mm, IPC Medium Density)
pins: 1, 2

## CAP_1uF_25V_10%_X7R_0805
designator C?, comment 1uF
Ceramic Capacitor, Multilayer, Ceramic, 25V, 10% +Tol, 10% -Tol, X7R, 15% TC, 1uF, Surface Mount, 0805; Manufacturer: KEMET; Manufacturer Part Number: C0805C105K3RACTU; Multilayer: Yes; Supplier: Digi-Key; Supplier Part Number: 399-C0805C105K3RAC7800DKR-ND; RoHS: Yes; Category: Ceramic Capacitors; Stock: 491988; Pricing: 1=0.13, 10=0.091, 50=0.054, 100=0.0425, 500=0.03142, 1000=0.02601 (USD); Mounting Technology: Surface Mount; Pins: 2; Package Shape: Rectangular; Terminal Finish: Nickel; Dielectric Material: Ceramic; Case/Package: 0805; Min Operating Temperature: -55°C; Max Operating Temperature: 125°C; JESD-609 Code: e3; Package Style: SMTMeter; Capacitor Type: Ceramic; Tolerance  (fill in as +-): 10%; Packaging: Tape and Reel; Tolerance (fill in as +-): 10%; Temperature Characteristics Code: X7R; Termination: Wraparound; Length: 2mm; Width: 1.25mm; Height: 1.25mm; Reach SVHC Compliant: Yes; RoHS Compliant: Yes; ComponentLink1URL: https://datasheet.ciiva.com:443/pdfs/VipMasterIC/IC/KEME/KEME-S-A0008991654/KEME-S-A0008991654-1.pdf?src-supplier=IHS+Markit; ComponentLink1Description: https://datasheet.ciiva.com:443/pdfs/VipMasterIC/IC/KEME/KEME-S-A0008991654/KEME-S-A0008991654-1.pdf?src-supplier=IHS+Markit; ComponentLink2URL: https://datasheet.ciiva.com/6074/kem-c1002-x7r-smd-6074661.pdf?src-supplier=Farnell; ComponentLink2Description: https://datasheet.ciiva.com/6074/kem-c1002-x7r-smd-6074661.pdf?src-supplier=Farnell; ComponentLink3URL: https://datasheet.ciiva.com/28610/1918693-28610874.pdf?src-supplier=Element14; ComponentLink3Description: https://datasheet.ciiva.com/28610/1918693-28610874.pdf?src-supplier=Element14; ComponentLink4URL: https://datasheet.ciiva.com/46443/1851736-46443533.pdf?src-supplier=Element14; ComponentLink4Description: https://datasheet.ciiva.com/46443/1851736-46443533.pdf?src-supplier=Element14; Rated DC Voltage (URdc): 25V; Value: 1uF
footprint CAP_0805
pins: 1, 2

## CAP_1uF_35V_10%_X7R_0805
designator C?, comment 1uF
Ceramic Capacitor, Multilayer, Ceramic, 35V, 10% +Tol, 10% -Tol, X7R, 15% TC, 1uF, Surface Mount, 0805; Manufacturer: Murata; Manufacturer Part Number: GCM21BR7YA105KA55L; Multilayer: Yes; Reference Standard: AEC-Q200; Supplier: Farnell; Supplier Part Number: 2494199; RoHS: Yes; Category: Ceramic Capacitors; Stock: 4994; Pricing: 5=0.171, 50=0.0944, 250=0.0901, 500=0.0857, 1500=0.084 (EUR); Mounting Technology: Surface Mount; Pins: 2; Dielectric Material: Ceramic; Package Shape: Rectangular; Case/Package: 0805; Terminal Finish: Nickel; Min Operating Temperature: -55°C; Max Operating Temperature: 125°C; JESD-609 Code: e3; Value: 1uF; Capacitor Type: Ceramic; Tolerance  (fill in as +-): 10%; Package Style: SMTMeter; Packaging: Tape and Reel; Tolerance (fill in as +-): 10%; Rated DC Voltage (URdc): 35V; Temperature Characteristics Code: X7R; Termination: Wraparound; Length: 2mm; Width: 1.25mm; Height: 1.4mm; Reach SVHC Compliant: Yes; RoHS Compliant: Yes; ComponentLink1URL: https://datasheet.ciiva.com:443/pdfs/VipMasterIC/IC/MURE/MURE-S-A0008911298/MURE-S-A0008911405-1.pdf?src-supplier=IHS+Markit; ComponentLink1Description: https://datasheet.ciiva.com:443/pdfs/VipMasterIC/IC/MURE/MURE-S-A0008911298/MURE-S-A0008911405-1.pdf?src-supplier=IHS+Markit; ComponentLink2URL: https://datasheet.ciiva.com/11616/product-11616620.pdf?src-supplier=Avnet; ComponentLink2Description: https://datasheet.ciiva.com/11616/product-11616620.pdf?src-supplier=Avnet; ComponentLink3URL: https://datasheet.ciiva.com/138/s0717e-138751.pdf?src-supplier=Digikey; ComponentLink3Description: https://datasheet.ciiva.com/138/s0717e-138751.pdf?src-supplier=Digikey; ComponentLink4URL: https://datasheet.ciiva.com/138/s0717e-138752.pdf?src-supplier=Digikey; ComponentLink4Description: https://datasheet.ciiva.com/138/s0717e-138752.pdf?src-supplier=Digikey; ComponentLink5URL: https://datasheet.ciiva.com/138/s0717e-138753.pdf?src-supplier=Digikey; ComponentLink5Description: https://datasheet.ciiva.com/138/s0717e-138753.pdf?src-supplier=Digikey; ComponentLink6URL: https://datasheet.ciiva.com/18183/getdatasheetpartid-251151-18183719.pdf?src-supplier=Verical; ComponentLink6Description: https://datasheet.ciiva.com/18183/getdatasheetpartid-251151-18183719.pdf?src-supplier=Verical
footprint CAP_0805
pins: 1, 1, 2, 2

## CAP_1uF_50V_10%_X7R_0805
designator C?, comment 1uF
Ceramic Capacitor, Multilayer, Ceramic, 50V, 10% +Tol, 10% -Tol, X7R, 15% TC, 1uF, Surface Mount, 0805; Manufacturer: Murata; Manufacturer Part Number: GCM21BR71H105KA03K; Multilayer: Yes; Reference Standard: AEC-Q200; Supplier: Farnell; Supplier Part Number: 3582731; RoHS: Yes; Category: Ceramic Capacitors; Stock: 15406; Pricing: 10=0.18, 100=0.0982, 500=0.0834, 2500=0.0817, 5000=0.0801 (EUR); Mounting Technology: Surface Mount; Pins: 2; Dielectric Material: Ceramic; Package Shape: Rectangular; Case/Package: 0805; Terminal Finish: Nickel; Min Operating Temperature: -55°C; Max Operating Temperature: 125°C; JESD-609 Code: e3; Value: 1uF; Capacitor Type: Ceramic; Tolerance  (fill in as +-): 10%; Package Style: SMTMeter; Packaging: Tape and Reel; Tolerance (fill in as +-): 10%; Rated DC Voltage (URdc): 50V; Temperature Characteristics Code: X7R; Termination: Wraparound; Length: 2mm; Width: 1.25mm; Height: 1.4mm; Reach SVHC Compliant: Yes; RoHS Compliant: Yes; ComponentLink1URL: https://datasheet.ciiva.com:443/pdfs/VipMasterIC/IC/MURE/MURE-S-A0004442191/MURE-S-A0004444853-1.pdf?src-supplier=IHS+Markit; ComponentLink1Description: https://datasheet.ciiva.com:443/pdfs/VipMasterIC/IC/MURE/MURE-S-A0004442191/MURE-S-A0004444853-1.pdf?src-supplier=IHS+Markit; ComponentLink2URL: http://www.mouser.com/ds/2/281/c03e-806517.pdf?src-supplier=Mouser; ComponentLink2Description: http://www.mouser.com/ds/2/281/c03e-806517.pdf?src-supplier=Mouser; ComponentLink3URL: https://datasheet.octopart.com/GCM21BR71H105KA03K-Murata-datasheet-31964969.pdf?src-supplier=Future+Electronics; ComponentLink3Description: https://datasheet.octopart.com/GCM21BR71H105KA03K-Murata-datasheet-31964969.pdf?src-supplier=Future+Electronics; ComponentLink4URL: https://datasheet.octopart.com/GCM21BR71H105KA03K-Murata-datasheet-149522716.pdf?src-supplier=Newark; ComponentLink4Description: https://datasheet.octopart.com/GCM21BR71H105KA03K-Murata-datasheet-149522716.pdf?src-supplier=Newark; ComponentLink5URL: https://www.murata.com/~/media/webrenewal/support/library/catalog/products/capacitor/mlcc/c03e.ashx?la=en-us&src-supplier=Digikey; ComponentLink5Description: https://www.murata.com/~/media/webrenewal/support/library/catalog/products/capacitor/mlcc/c03e.ashx?la=en-us&src-supplier=Digikey
footprint CAP_0805
pins: 1, 2

## CAP_1uF_100V_10%_1206
designator C?, comment 1uF
Ceramic Capacitor, Multilayer, Ceramic, 100V, 10% +Tol, 10% -Tol, X7R, 15% TC, 1uF, Surface Mount, 1206; Manufacturer: KEMET; Manufacturer Part Number: C1206C105K1RACTU; Multilayer: Yes; Supplier: Mouser; Supplier Part Number: 80-C1206C105K1R; RoHS: Yes; Category: Ceramic Capacitors; Stock: 13230; Pricing: 1=0.45, 10=0.239, 50=0.239, 100=0.164, 1000=0.164, 10000=0.136 (USD); Mounting Technology: Surface Mount; Pins: 2; Dielectric Material: Ceramic; Package Shape: Rectangular; Case/Package: 1206; Terminal Finish: Nickel; Min Operating Temperature: -55°C; Max Operating Temperature: 125°C; JESD-609 Code: e3; Value: 1uF; Capacitor Type: Ceramic; Tolerance  (fill in as +-): 10%; Package Style: SMTMeter; Packaging: Tape and Reel; Tolerance (fill in as +-): 10%; Rated DC Voltage (URdc): 100V; Temperature Characteristics Code: X7R; Termination: Wraparound; Length: 3.2mm; Width: 2.5mm; Height: 1.6mm; Reach SVHC Compliant: Yes; RoHS Compliant: Yes; ComponentLink1URL: https://datasheet.ciiva.com:443/pdfs/VipMasterIC/IC/KEME/KEME-S-A0008991654/KEME-S-A0008991654-1.pdf?src-supplier=IHS+Markit; ComponentLink1Description: https://datasheet.ciiva.com:443/pdfs/VipMasterIC/IC/KEME/KEME-S-A0008991654/KEME-S-A0008991654-1.pdf?src-supplier=IHS+Markit; ComponentLink2URL: http://www.alliedelec.com/m/d/51f554c3dd800f51434b811e71a34895.pdf?src-supplier=Allied+Electronics; ComponentLink2Description: http://www.alliedelec.com/m/d/51f554c3dd800f51434b811e71a34895.pdf?src-supplier=Allied+Electronics; ComponentLink3URL: http://www.farnell.com/datasheets/2741188.pdf?src-supplier=Farnell; ComponentLink3Description: http://www.farnell.com/datasheets/2741188.pdf?src-supplier=Farnell; ComponentLink4URL: http://www.farnell.com/datasheets/2741188.pdf?src-supplier=Element14; ComponentLink4Description: http://www.farnell.com/datasheets/2741188.pdf?src-supplier=Element14; ComponentLink5URL: http://datasheet.octopart.com/C1206C105K1RACTU-Kemet-datasheet-46909923.pdf?src-supplier=Distrelec; ComponentLink5Description: http://datasheet.octopart.com/C1206C105K1RACTU-Kemet-datasheet-46909923.pdf?src-supplier=Distrelec; ComponentLink6URL: http://datasheet.octopart.com/C1206C105K1RACTU-Kemet-datasheet-46909923.pdf?src-supplier=Digikey; ComponentLink6Description: http://datasheet.octopart.com/C1206C105K1RACTU-Kemet-datasheet-46909923.pdf?src-supplier=Digikey; ComponentLink7URL: http://datasheet.octopart.com/C1206C105K1RACTU-Kemet-datasheet-46909923.pdf?src-supplier=Avnet; ComponentLink7Description: http://datasheet.octopart.com/C1206C105K1RACTU-Kemet-datasheet-46909923.pdf?src-supplier=Avnet; ComponentLink8URL: https://datasheet.octopart.com/C1206C105K1RACTU-KEMET-datasheet-145014209.pdf?src-supplier=Farnell; ComponentLink8Description: https://datasheet.octopart.com/C1206C105K1RACTU-KEMET-datasheet-145014209.pdf?src-supplier=Farnell; ComponentLink9URL: https://api.kemet.com/component-edge/download/datasheet/C1206C105K1RACTU.pdf?src-supplier=Digikey; ComponentLink9Description: https://api.kemet.com/component-edge/download/datasheet/C1206C105K1RACTU.pdf?src-supplier=Digikey; ComponentLink10URL: http://www.farnell.com/datasheets/2741188.pdf?src-supplier=Newark; ComponentLink10Description: http://www.farnell.com/datasheets/2741188.pdf?src-supplier=Newark; ComponentLink11URL: http://datasheet.octopart.com/C1206C105K1RACTU-Kemet-datasheet-46909923.pdf?src-supplier=Onlinecomponents.com; ComponentLink11Description: http://datasheet.octopart.com/C1206C105K1RACTU-Kemet-datasheet-46909923.pdf?src-supplier=Onlinecomponents.com; ComponentLink12URL: http://datasheet.octopart.com/C1206C105K1RACTU-Kemet-datasheet-46909923.pdf?src-supplier=NAC+Semi; ComponentLink12Description: http://datasheet.octopart.com/C1206C105K1RACTU-Kemet-datasheet-46909923.pdf?src-supplier=NAC+Semi; ComponentLink13URL: http://datasheet.octopart.com/C1206C105K1RACTU-Kemet-datasheet-46909923.pdf?src-supplier=Electro+Sonic; ComponentLink13Description: http://datasheet.octopart.com/C1206C105K1RACTU-Kemet-datasheet-46909923.pdf?src-supplier=Electro+Sonic
footprint CAP_1206
pins: 1, 2

## CAP_1uF_100V_10%_X7S_0805
designator C?, comment 1uF
Ceramic Capacitor, Multilayer, Ceramic, 100V, 10% +Tol, 10% -Tol, X7S, 22% TC, 1uF, Surface Mount, 0805; Manufacturer: TDK; Manufacturer Part Number: C2012X7S2A105K125AB; Multilayer: Yes; Supplier: Farnell; Supplier Part Number: 2112709; RoHS: Yes; Category: Ceramic Capacitors; Stock: 25788; Pricing: 5=0.197, 50=0.135, 250=0.129, 500=0.124, 1000=0.118 (EUR); Mounting Technology: Surface Mount; Pins: 2; Dielectric Material: Ceramic; Package Shape: Rectangular; Case/Package: 0805; Terminal Finish: Nickel; Min Operating Temperature: -55°C; Max Operating Temperature: 125°C; JESD-609 Code: e3; Value: 1uF; Capacitor Type: Ceramic; Tolerance  (fill in as +-): 10%; Package Style: SMTMeter; Packaging: Tape and Reel; Tolerance (fill in as +-): 10%; Rated DC Voltage (URdc): 100V; Temperature Characteristics Code: X7S; Termination: Wraparound; Length: 2mm; Width: 1.25mm; Height: 1.25mm; Reach SVHC Compliant: Yes; RoHS Compliant: Yes; ComponentLink1URL: https://datasheet.ciiva.com:443/pdfs/VipMasterIC/IC/TDKC/TDKC-S-A0008591847/TDKC-S-A0008591847-1.pdf?src-supplier=IHS+Markit; ComponentLink1Description: https://datasheet.ciiva.com:443/pdfs/VipMasterIC/IC/TDKC/TDKC-S-A0008591847/TDKC-S-A0008591847-1.pdf?src-supplier=IHS+Markit; ComponentLink2URL: https://datasheet.ciiva.com/24216/c2012x7s2a105k125ab-265082-24216433.pdf?src-supplier=Mouser; ComponentLink2Description: https://datasheet.ciiva.com/24216/c2012x7s2a105k125ab-265082-24216433.pdf?src-supplier=Mouser; ComponentLink3URL: https://datasheet.ciiva.com/16427/newmlccproducts-16427795.pdf?src-supplier=Future+Electronics; ComponentLink3Description: https://datasheet.ciiva.com/16427/newmlccproducts-16427795.pdf?src-supplier=Future+Electronics; ComponentLink4URL: https://datasheet.ciiva.com/8079/1833281-8079405.pdf?src-supplier=Element14; ComponentLink4Description: https://datasheet.ciiva.com/8079/1833281-8079405.pdf?src-supplier=Element14
footprint CAP_0805
pins: 1, 2

## CAP_2.2nF_25V_5%_C0G_0402
designator C?, comment 2.2nF
Ceramic Capacitor, Multilayer, Ceramic, 25V, 5% +Tol, 5% -Tol, C0G, 30ppm/Cel TC, 0.0022uF, Surface Mount, 0402; Manufacturer: KEMET; Manufacturer Part Number: C0402C222J3GACAUTO; Multilayer: Yes; Reference Standard: AEC-Q200; Supplier: Farnell; Supplier Part Number: 2904553; RoHS: Yes; Category: Ceramic Capacitors; Stock: 48515; Pricing: 10=0.145, 100=0.068, 500=0.066, 1000=0.063, 2000=0.06, 4000=0.058 (EUR); Pins: 2; Dielectric Material: Ceramic; Case/Package: 0402; Terminal Finish: Nickel; Min Operating Temperature: -55°C; Max Operating Temperature: 125°C; JESD-609 Code: e3; Value: 2.2nF; Capacitor Type: Ceramic; Tolerance  (fill in as +-): 5%; Package Style: SMTMeter; Packaging: Tape and Reel; Tolerance (fill in as +-): 5%; Rated DC Voltage (URdc): 25V; Temperature Characteristics Code: C0G; Length: 1mm; Width: 0.5mm; Height: 0.5mm; Reach SVHC Compliant: Yes; RoHS Compliant: Yes; ComponentLink1URL: https://datasheet.ciiva.com:443/pdfs/VipMasterIC/IC/KEME/KEME-S-A0008958445/KEME-S-A0008958445-1.pdf?src-supplier=IHS+Markit; ComponentLink1Description: https://datasheet.ciiva.com:443/pdfs/VipMasterIC/IC/KEME/KEME-S-A0008958445/KEME-S-A0008958445-1.pdf?src-supplier=IHS+Markit; ComponentLink2URL: https://datasheet.octopart.com/C0402C222J3GACAUTO-KEMET-datasheet-169773467.pdf?src-supplier=Newark; ComponentLink2Description: https://datasheet.octopart.com/C0402C222J3GACAUTO-KEMET-datasheet-169773467.pdf?src-supplier=Newark; ComponentLink3URL: https://datasheet.octopart.com/C0402C222J3GACAUTO-KEMET-datasheet-100087244.pdf?src-supplier=Element14; ComponentLink3Description: https://datasheet.octopart.com/C0402C222J3GACAUTO-KEMET-datasheet-100087244.pdf?src-supplier=Element14; ComponentLink4URL: https://datasheet.octopart.com/C0402C222J3GACAUTO-KEMET-datasheet-157246110.pdf?src-supplier=Electro+Sonic; ComponentLink4Description: https://datasheet.octopart.com/C0402C222J3GACAUTO-KEMET-datasheet-157246110.pdf?src-supplier=Electro+Sonic
footprint CAP_0402
pins: 1, 2

## CAP_2.2nF_50V_10%_X7R_0805
designator C?, comment 2.2nF
Ceramic Capacitor, Multilayer, Ceramic, 50V, 10% +Tol, 10% -Tol, X7R, 15% TC, 0.0022uF, Surface Mount, 0805; Manufacturer: KEMET; Manufacturer Part Number: C0805C222K5RACTU; Multilayer: Yes; Supplier: Mouser; Supplier Part Number: 80-C0805C222K5R; RoHS: Yes; Category: Ceramic Capacitors; Stock: 88926; Pricing: 1=0.1, 10=0.029, 50=0.029, 100=0.015, 1000=0.011, 10000=0.007 (USD); Mounting Technology: Surface Mount; Pins: 2; Dielectric Material: Ceramic; Package Shape: Rectangular; Case/Package: 0805; Terminal Finish: Nickel; Min Operating Temperature: -55°C; Max Operating Temperature: 125°C; JESD-609 Code: e3; Value: 2.2nF; Capacitor Type: Ceramic; Tolerance  (fill in as +-): 10%; Package Style: SMTMeter; Packaging: Tape and Reel; Tolerance (fill in as +-): 10%; Rated DC Voltage (URdc): 50V; Temperature Characteristics Code: X7R; Termination: Wraparound; Length: 2mm; Width: 1.25mm; Height: 0.78mm; Reach SVHC Compliant: Yes; RoHS Compliant: Yes; ComponentLink1URL: https://datasheet.ciiva.com:443/pdfs/VipMasterIC/IC/KEME/KEME-S-A0008991654/KEME-S-A0008991654-1.pdf?src-supplier=IHS+Markit; ComponentLink1Description: https://datasheet.ciiva.com:443/pdfs/VipMasterIC/IC/KEME/KEME-S-A0008991654/KEME-S-A0008991654-1.pdf?src-supplier=IHS+Markit
footprint CAP_0805
pins: 1, 2

## CAP_2.2nF_630V_10%_X7R_1206
designator C?, comment 2.2nF
Ceramic Capacitor, Multilayer, Ceramic, 630V, 10% +Tol, 10% -Tol, X7R, 15% TC, 0.0022uF, Surface Mount, 1206; Manufacturer: TDK; Manufacturer Part Number: C3216X7R2J222K115AA; Multilayer: Yes; Supplier: Arrow Electronics; Supplier Part Number: C3216X7R2J222K115AA; RoHS: Yes; Category: Ceramic Capacitors; Stock: 1; Pricing: 1=0.0098 (USD); Mounting Technology: Surface Mount; Pins: 2; Dielectric Material: Ceramic; Package Shape: Rectangular; Case/Package: 1206; Terminal Finish: Nickel; Min Operating Temperature: -55°C; Max Operating Temperature: 125°C; JESD-609 Code: e3; Value: 2.2nF; Capacitor Type: Ceramic; Tolerance  (fill in as +-): 10%; Packaging: Tape and Reel; Tolerance (fill in as +-): 10%; Rated DC Voltage (URdc): 630V; Temperature Characteristics Code: X7R; Termination: Wraparound; Package Style: SMTMeter; Length: 3.2mm; Width: 1.6mm; Height: 1.15mm; Reach SVHC Compliant: Yes; RoHS Compliant: Yes; ComponentLink1URL: https://datasheet.ciiva.com:443/pdfs/VipMasterIC/IC/TDKC/TDKC-S-A0008591847/TDKC-S-A0008591847-1.pdf?src-supplier=IHS+Markit; ComponentLink1Description: https://datasheet.ciiva.com:443/pdfs/VipMasterIC/IC/TDKC/TDKC-S-A0008591847/TDKC-S-A0008591847-1.pdf?src-supplier=IHS+Markit; ComponentLink2URL: https://datasheet.ciiva.com/24217/c3216x7r2j222k115aa-265247-24217222.pdf?src-supplier=Mouser; ComponentLink2Description: https://datasheet.ciiva.com/24217/c3216x7r2j222k115aa-265247-24217222.pdf?src-supplier=Mouser; ComponentLink3URL: https://datasheet.ciiva.com/11788/0900766b80fc5cba-11788214.pdf?src-supplier=Rs; ComponentLink3Description: https://datasheet.ciiva.com/11788/0900766b80fc5cba-11788214.pdf?src-supplier=Rs; ComponentLink4URL: https://datasheet.ciiva.com/28620/1484596-28620568.pdf?src-supplier=Element14; ComponentLink4Description: https://datasheet.ciiva.com/28620/1484596-28620568.pdf?src-supplier=Element14
footprint CAP_1206
pins: 1, 2

## CAP_2.2pF_50V_1%_C0G_0402
designator C?, comment 2.2pF
Cap Cer 2.2PF 50V C0G/NP0 0402; Manufacturer: Johanson; Manufacturer Part Number: QSCF500Q2R2B1GV001T; Supplier: Digikey; Supplier Part Number: 712-QSCF500Q2R2B1GV001TCT-ND; RoHS: Yes; Category: Ceramic Capacitors; Stock: 2380; Pricing: 1=0.24, 10=0.141, 100=0.0895, 1000=0.0629, 2500=0.0563, 5000=0.05232 (USD); Reach SVHC Compliant: No; RoHS Compliant: Yes
footprint CAP_0402
pins: 1, 2